# EAGLE library part ATTINY13A-PU (library IC-Microcontrollers)
8-bit Microcontroller with 1K Bytes In-System Programmable Flash
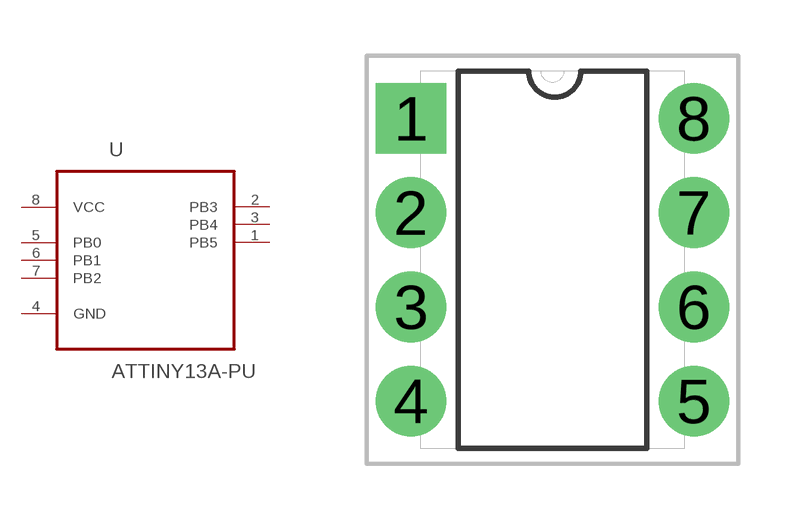
[diagram p0: symbol with the pads of DIP254P762X533-8; footprint DIP254P762X533-8]

Designator prefix U

## ATTINY13A-PU (MPN: ATTINY13A-PU; OC_FARNELL: 1704566; OC_NEWARK: 68T3499; PACKAGE: PDIP-8; SUPPLIER: Atmel)  [DIP254P762X533-8]
1  PB5
2  PB3
3  PB4
4  GND  pas
5  PB0
6  PB1
7  PB2
8  VCC  pwr

## Footprint DIP254P762X533-8 (pad centres in mm)
drill 1.27 square: 1 -3.81,3.81
drill 1.27: 2 -3.81,1.27; 3 -3.81,-1.27; 4 -3.81,-3.81; 5 3.81,-3.81; 6 3.81,-1.27; 7 3.81,1.27; 8 3.81,3.81